# EAGLE library part ATTINY*8 (library atmel)
8-bit AVR tiny Microcontroller Status aktiv aktiv ATtiny48 ATtiny88 Note: port A is not available in 28-lead packages General purpose working registers 32 SRAM 256 B 512 B Program flash memory 4 kB 8 kB EEPROM 64 B 16-bit Timer/Counter 1 8-bit Timer/Counter 1 SPI 1 TWI (I2C) 1 ADC channels 8 (6) ADC resolution 10 bit AC 1 Watchdog 1 General purpose I/O 28 (24) External interrupts 28 (24) Operating voltage 1.8 ... 5.5 V Speed grade 0 ... 4 MHz @ 1.8 ... 5.5 V 0 ... 8 MHz @ 2.7 ... 5.5 V 0 ... 12 MHz @ 4.5 ... 5.5V Clock options calibrated internal 8 MHz oscillator internal 128 kHz oscillator external clock input
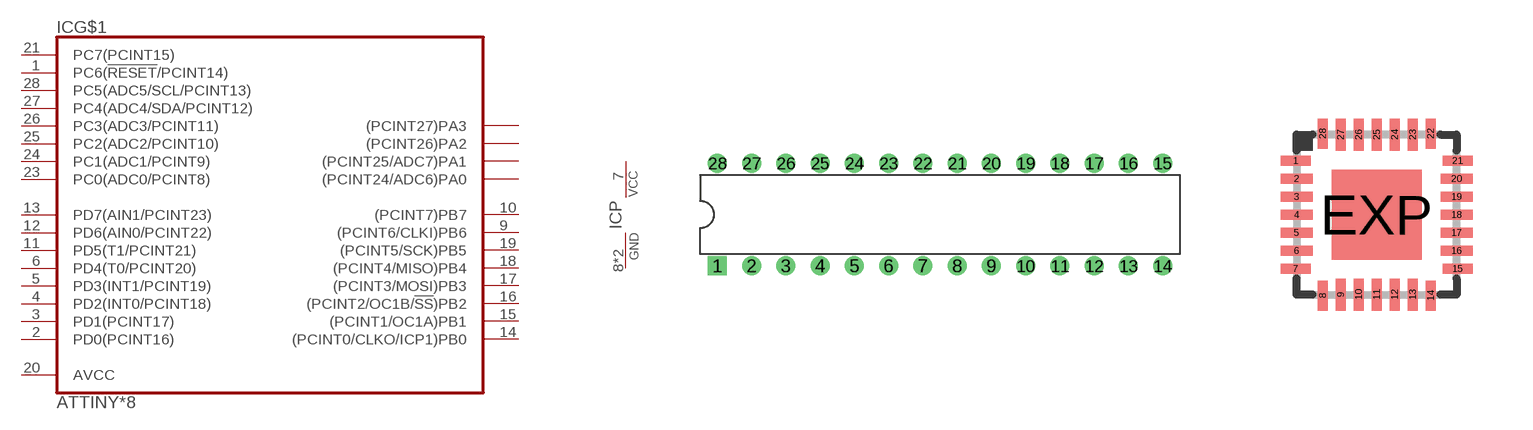
[diagram p81: symbol with the pads of DIL28-3; footprints DIL28-3, QFN28_4X4_0.45]

Designator prefix IC; gates G$1=TINY88 P=PWR

## ATTINY48-PU, ATTINY88-PU  [DIL28-3]
1  G$1:PC6(!RESET!/PCINT14)
2  G$1:PD0(PCINT16)
3  G$1:PD1(PCINT17)
4  G$1:PD2(INT0/PCINT18)
5  G$1:PD3(INT1/PCINT19)
6  G$1:PD4(T0/PCINT20)
7  P:VCC  pwr
8  P:GND  pwr
9  G$1:(PCINT6/CLKI)PB6
10  G$1:(PCINT7)PB7
11  G$1:PD5(T1/PCINT21)
12  G$1:PD6(AIN0/PCINT22)
13  G$1:PD7(AIN1/PCINT23)
14  G$1:(PCINT0/CLKO/ICP1)PB0
15  G$1:(PCINT1/OC1A)PB1
16  G$1:(PCINT2/OC1B/!SS!)PB2
17  G$1:(PCINT3/MOSI)PB3
18  G$1:(PCINT4/MISO)PB4
19  G$1:(PCINT5/SCK)PB5
20  G$1:AVCC  pwr
21  G$1:PC7(PCINT15)
22  P:GND  pwr
23  G$1:PC0(ADC0/PCINT8)
24  G$1:PC1(ADC1/PCINT9)
25  G$1:PC2(ADC2/PCINT10)
26  G$1:PC3(ADC3/PCINT11)
27  G$1:PC4(ADC4/SDA/PCINT12)
28  G$1:PC5(ADC5/SCL/PCINT13)

## ATTINY48-MMU, ATTINY88-MMU  [QFN28_4X4_0.45]
1  G$1:PD3(INT1/PCINT19)
2  G$1:PD4(T0/PCINT20)
3  P:VCC  pwr
4  P:GND  pwr
5  G$1:(PCINT6/CLKI)PB6
6  G$1:(PCINT7)PB7
7  G$1:PD5(T1/PCINT21)
8  G$1:PD6(AIN0/PCINT22)
9  G$1:PD7(AIN1/PCINT23)
10  G$1:(PCINT0/CLKO/ICP1)PB0
11  G$1:(PCINT1/OC1A)PB1
12  G$1:(PCINT2/OC1B/!SS!)PB2
13  G$1:(PCINT3/MOSI)PB3
14  G$1:(PCINT4/MISO)PB4
15  G$1:(PCINT5/SCK)PB5
16  G$1:AVCC  pwr
17  G$1:PC7(PCINT15)
18  P:GND  pwr
19  G$1:PC0(ADC0/PCINT8)
20  G$1:PC1(ADC1/PCINT9)
21  G$1:PC2(ADC2/PCINT10)
22  G$1:PC3(ADC3/PCINT11)
23  G$1:PC4(ADC4/SDA/PCINT12)
24  G$1:PC5(ADC5/SCL/PCINT13)
25  G$1:PC6(!RESET!/PCINT14)
26  G$1:PD0(PCINT16)
27  G$1:PD1(PCINT17)
28  G$1:PD2(INT0/PCINT18)
EXP  P:GND  pwr

## ATTINY48-MMH, ATTINY88-MMH  [QFN28_4X4_0.45]
Pads as for QFN28_4X4_0.45

## ATTINY48-MU, ATTINY88-MU  [QFN32_5X5_0.50]
1  G$1:PD3(INT1/PCINT19)
2  G$1:PD4(T0/PCINT20)
3  G$1:(PCINT26)PA2
4  P:VCC  pwr
5  P:GND  pwr
6  G$1:(PCINT27)PA3
7  G$1:(PCINT6/CLKI)PB6
8  G$1:(PCINT7)PB7
9  G$1:PD5(T1/PCINT21)
10  G$1:PD6(AIN0/PCINT22)
11  G$1:PD7(AIN1/PCINT23)
12  G$1:(PCINT0/CLKO/ICP1)PB0
13  G$1:(PCINT1/OC1A)PB1
14  G$1:(PCINT2/OC1B/!SS!)PB2
15  G$1:(PCINT3/MOSI)PB3
16  G$1:(PCINT4/MISO)PB4
17  G$1:(PCINT5/SCK)PB5
18  G$1:AVCC  pwr
19  G$1:(PCINT24/ADC6)PA0
20  G$1:PC7(PCINT15)
21  P:GND  pwr
22  G$1:(PCINT25/ADC7)PA1
23  G$1:PC0(ADC0/PCINT8)
24  G$1:PC1(ADC1/PCINT9)
25  G$1:PC2(ADC2/PCINT10)
26  G$1:PC3(ADC3/PCINT11)
27  G$1:PC4(ADC4/SDA/PCINT12)
28  G$1:PC5(ADC5/SCL/PCINT13)
29  G$1:PC6(!RESET!/PCINT14)
30  G$1:PD0(PCINT16)
31  G$1:PD1(PCINT17)
32  G$1:PD2(INT0/PCINT18)
EXP  P:GND  pwr

## ATTINY48-AU, ATTINY88-AU  [QFP32_7X7_0.80]
1  G$1:PD3(INT1/PCINT19)
2  G$1:PD4(T0/PCINT20)
3  G$1:(PCINT26)PA2
4  P:VCC  pwr
5  P:GND  pwr
6  G$1:(PCINT27)PA3
7  G$1:(PCINT6/CLKI)PB6
8  G$1:(PCINT7)PB7
9  G$1:PD5(T1/PCINT21)
10  G$1:PD6(AIN0/PCINT22)
11  G$1:PD7(AIN1/PCINT23)
12  G$1:(PCINT0/CLKO/ICP1)PB0
13  G$1:(PCINT1/OC1A)PB1
14  G$1:(PCINT2/OC1B/!SS!)PB2
15  G$1:(PCINT3/MOSI)PB3
16  G$1:(PCINT4/MISO)PB4
17  G$1:(PCINT5/SCK)PB5
18  G$1:AVCC  pwr
19  G$1:(PCINT24/ADC6)PA0
20  G$1:PC7(PCINT15)
21  P:GND  pwr
22  G$1:(PCINT25/ADC7)PA1
23  G$1:PC0(ADC0/PCINT8)
24  G$1:PC1(ADC1/PCINT9)
25  G$1:PC2(ADC2/PCINT10)
26  G$1:PC3(ADC3/PCINT11)
27  G$1:PC4(ADC4/SDA/PCINT12)
28  G$1:PC5(ADC5/SCL/PCINT13)
29  G$1:PC6(!RESET!/PCINT14)
30  G$1:PD0(PCINT16)
31  G$1:PD1(PCINT17)
32  G$1:PD2(INT0/PCINT18)

## ATTINY48-CCU, ATTINY88-CCU  [32CC1]
A1  G$1:PD2(INT0/PCINT18)
A2  G$1:PD1(PCINT17)
A3  G$1:PC6(!RESET!/PCINT14)
A4  G$1:PC4(ADC4/SDA/PCINT12)
A5  G$1:PC2(ADC2/PCINT10)
A6  G$1:PC1(ADC1/PCINT9)
B1  G$1:PD3(INT1/PCINT19)
B2  G$1:PD4(T0/PCINT20)
B3  G$1:PD0(PCINT16)
B4  G$1:PC5(ADC5/SCL/PCINT13)
B5  G$1:PC3(ADC3/PCINT11)
B6  G$1:PC0(ADC0/PCINT8)
C1  P:GND  pwr
C2  G$1:(PCINT26)PA2
C5  G$1:(PCINT25/ADC7)PA1
C6  P:GND  pwr
D1  P:VCC  pwr
D2  G$1:(PCINT27)PA3
D5  G$1:PC7(PCINT15)
D6  G$1:(PCINT24/ADC6)PA0
E1  G$1:(PCINT6/CLKI)PB6
E2  G$1:PD6(AIN0/PCINT22)
E3  G$1:(PCINT0/CLKO/ICP1)PB0
E4  G$1:(PCINT2/OC1B/!SS!)PB2
E5  G$1:AVCC  pwr
E6  G$1:(PCINT5/SCK)PB5
F1  G$1:(PCINT7)PB7
F2  G$1:PD5(T1/PCINT21)
F3  G$1:PD7(AIN1/PCINT23)
F4  G$1:(PCINT1/OC1A)PB1
F5  G$1:(PCINT3/MOSI)PB3
F6  G$1:(PCINT4/MISO)PB4

## Footprint DIL28-3 (pad centres in mm)
DIL package, pin row distance 300mil
drill 0.8 pad 1.4 square: 1 -16.51,-3.81
drill 0.8 pad 1.4: 2 -13.97,-3.81; 3 -11.43,-3.81; 4 -8.89,-3.81; 5 -6.35,-3.81; 6 -3.81,-3.81; 7 -1.27,-3.81; 8 1.27,-3.81; 9 3.81,-3.81; 10 6.35,-3.81; 11 8.89,-3.81; 12 11.43,-3.81; 13 13.97,-3.81; 14 16.51,-3.81; 15 16.51,3.81; 16 13.97,3.81; 17 11.43,3.81; 18 8.89,3.81; 19 6.35,3.81; 20 3.81,3.81; 21 1.27,3.81; 22 -1.27,3.81; 23 -3.81,3.81; 24 -6.35,3.81; 25 -8.89,3.81; 26 -11.43,3.81; 27 -13.97,3.81; 28 -16.51,3.81

## Footprint QFN28_4X4_0.45 (pad centres in mm)
28-Lead Plastic QFN, 4mm x 4mm body, 0.45mm lead pitch, exposed pad ATMEL Code: 28M1, ZBV
smd 0.75 x 0.25: 1 -2.025,1.35; 7 -2.025,-1.35; 15 2.025,-1.35; 21 2.025,1.35
smd 0.8 x 0.25: 2 -2,0.9; 3 -2,0.45; 4 -2,0; 5 -2,-0.45; 6 -2,-0.9; 16 2,-0.9; 17 2,-0.45; 18 2,0; 19 2,0.45; 20 2,0.9
smd 0.25 x 0.75: 8 -1.35,-2.025; 14 1.35,-2.025; 22 1.35,2.025; 28 -1.35,2.025
smd 0.25 x 0.8: 9 -0.9,-2; 10 -0.45,-2; 11 0,-2; 12 0.45,-2; 13 0.9,-2; 23 0.9,2; 24 0.45,2; 25 0,2; 26 -0.45,2; 27 -0.9,2
smd 2.25 x 2.25: EXP 0,0

## Footprint QFN32_5X5_0.50 (pad centres in mm)
32-Lead Plastic QFN, 5mm x 5mm body, 0.5mm lead pitch, exposed pad ATMEL Code: 32M1-A Micro Lead Frame package (MLF) NXP Code: SOT617
smd 0.8 x 0.3: 1 -2.5,1.75; 2 -2.5,1.25; 3 -2.5,0.75; 4 -2.5,0.25; 5 -2.5,-0.25; 6 -2.5,-0.75; 7 -2.5,-1.25; 8 -2.5,-1.75; 17 2.5,-1.75; 18 2.5,-1.25; 19 2.5,-0.75; 20 2.5,-0.25; 21 2.5,0.25; 22 2.5,0.75; 23 2.5,1.25; 24 2.5,1.75
smd 0.3 x 0.8: 9 -1.75,-2.5; 10 -1.25,-2.5; 11 -0.75,-2.5; 12 -0.25,-2.5; 13 0.25,-2.5; 14 0.75,-2.5; 15 1.25,-2.5; 16 1.75,-2.5; 25 1.75,2.5; 26 1.25,2.5; 27 0.75,2.5; 28 0.25,2.5; 29 -0.25,2.5; 30 -0.75,2.5; 31 -1.25,2.5; 32 -1.75,2.5
smd 3.7 x 3.7: EXP 0,0

## Footprint QFP32_7X7_0.80 (pad centres in mm)
Thin Plasic Quad Flat Package, 7mm x 7mm body, 0.80mm lead pitch JEDEC: MS-026 ABA ATMEL Code: 32A
smd 1.5 x 0.55: 1 -4.2,2.8; 2 -4.2,2; 3 -4.2,1.2; 4 -4.2,0.4; 5 -4.2,-0.4; 6 -4.2,-1.2; 7 -4.2,-2; 8 -4.2,-2.8; 17 4.2,-2.8; 18 4.2,-2; 19 4.2,-1.2; 20 4.2,-0.4; 21 4.2,0.4; 22 4.2,1.2; 23 4.2,2; 24 4.2,2.8
smd 0.55 x 1.5: 9 -2.8,-4.2; 10 -2,-4.2; 11 -1.2,-4.2; 12 -0.4,-4.2; 13 0.4,-4.2; 14 1.2,-4.2; 15 2,-4.2; 16 2.8,-4.2; 25 2.8,4.2; 26 2,4.2; 27 1.2,4.2; 28 0.4,4.2; 29 -0.4,4.2; 30 -1.2,4.2; 31 -2,4.2; 32 -2.8,4.2

## Footprint 32CC1 (pad centres in mm)
fine-pitch Ball Grid Array, 4mm x 4mm body, 0.50mm ball pitch ATMEL Code: 32CC1, CAG
smd 0.25 x 0.25: A1 -1.25,1.25; A2 -0.75,1.25; A3 -0.25,1.25; A4 0.25,1.25; A5 0.75,1.25; A6 1.25,1.25; B1 -1.25,0.75; B2 -0.75,0.75; B3 -0.25,0.75; B4 0.25,0.75; B5 0.75,0.75; B6 1.25,0.75; C1 -1.25,0.25; C2 -0.75,0.25; C5 0.75,0.25; C6 1.25,0.25; D1 -1.25,-0.25; D2 -0.75,-0.25; D5 0.75,-0.25; D6 1.25,-0.25; E1 -1.25,-0.75; E2 -0.75,-0.75; E3 -0.25,-0.75; E4 0.25,-0.75; E5 0.75,-0.75; E6 1.25,-0.75; F1 -1.25,-1.25; F2 -0.75,-1.25; F3 -0.25,-1.25; F4 0.25,-1.25; F5 0.75,-1.25; F6 1.25,-1.25